# Altium footprint library QFP_Sq_100P_Side_L.PcbLib: 9 footprints
Each footprint in its own frame and in the unit in brackets; x right, y up, seen from the top. Pads: shape width x height; smd on the part's side, far side on the other; paste and mask are expansions set on the pad; w line width, h text height; cw(c..) or ccw(c..) is an arc to the next point about the centre after c.
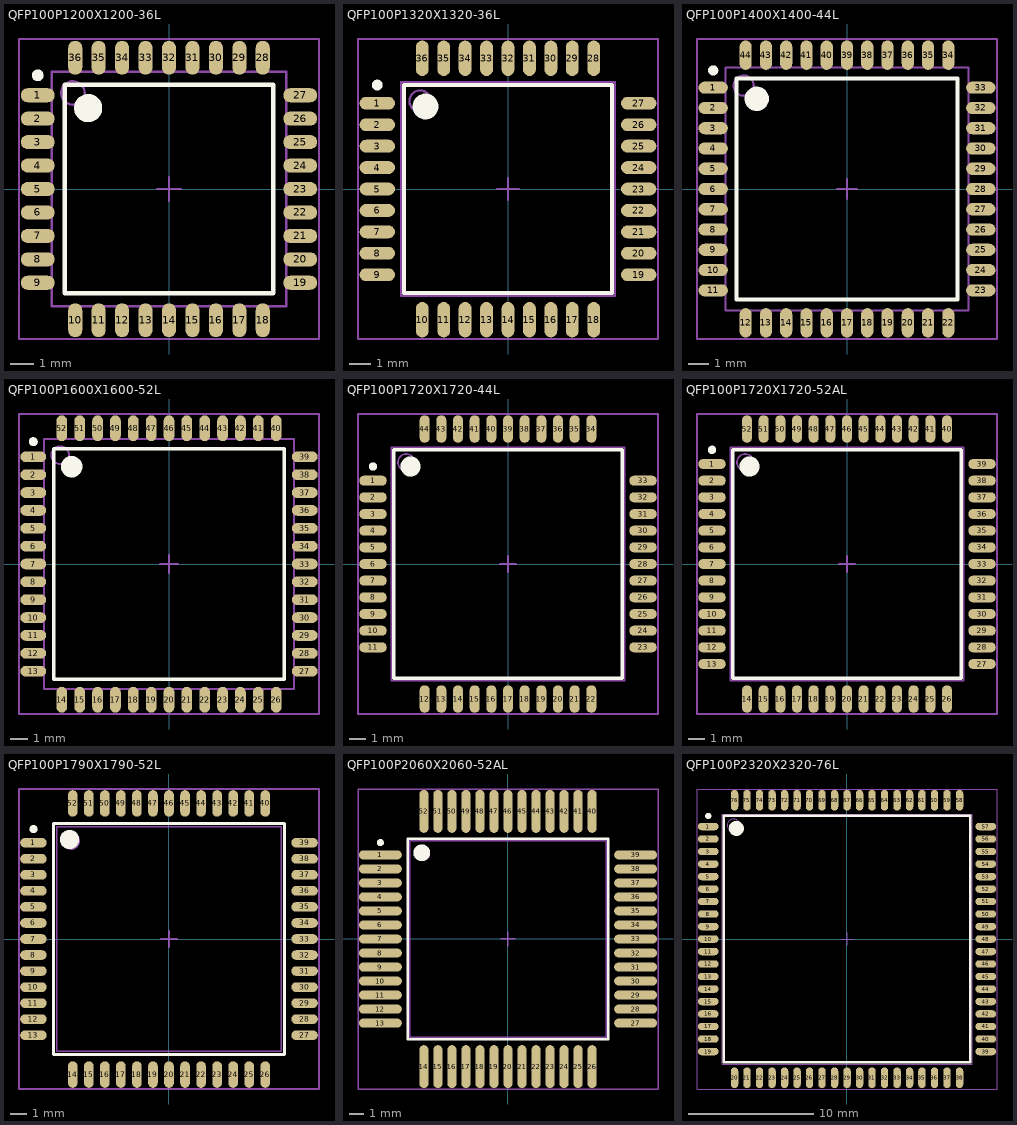
[diagram p0: the footprints below, top view; thin cyan lines are the x and y axes]

## QFP100P1200X1200-36L [mm] "QFP, 36-Leads, Body 10x10mm, Pitch 1mm, IPC High Density"
height 1.2
pads (36):
  oval 1.45x0.6 smd: 1(-5.6,4) 2(-5.6,3) 3(-5.6,2) 4(-5.6,1) 5(-5.6,0) 6(-5.6,-1) 7(-5.6,-2) 8(-5.6,-3) 9(-5.6,-4) 19(5.6,-4) 20(5.6,-3) 21(5.6,-2) 22(5.6,-1) 23(5.6,0) 24(5.6,1) 25(5.6,2) 26(5.6,3) 27(5.6,4)
  oval 0.6x1.45 smd: 10(-4,-5.6) 11(-3,-5.6) 12(-2,-5.6) 13(-1,-5.6) 14(0,-5.6) 15(1,-5.6) 16(2,-5.6) 17(3,-5.6) 18(4,-5.6) 28(4,5.6) 29(3,5.6) 30(2,5.6) 31(1,5.6) 32(0,5.6) 33(-1,5.6) 34(-2,5.6) 35(-3,5.6) 36(-4,5.6)
Top Overlay:
  circle w0.6: c-3.45,3.45 r0.3
  circle w0.25: c-5.6,4.85 r0.125
  lines w0.2: -4.45,-4.45 4.45,-4.45 4.45,4.45 -4.45,4.45 -4.45,-4.45
Mechanical 13:
  circle w0.1: c-4.1,4.1 r0.5
  lines w0.1: -5,-5 5,-5 5,5 -5,5 -5,-5
Mechanical 15:
  lines w0.1: -0.5,0 0.5,0 ; 0,-0.5 0,0.5 ; -6.4,-6.4 6.4,-6.4 6.4,6.4 -6.4,6.4 -6.4,-6.4
3D body: height 1.2, standoff 0, extent -5,-5 5,5

## QFP100P1320X1320-36L [mm] "QFP, 36-Leads, Body 10x10mm, Pitch 1mm, IPC High Density"
height 2.45
pads (36):
  oval 1.65x0.6 smd: 1(-6.1,4) 2(-6.1,3) 3(-6.1,2) 4(-6.1,1) 5(-6.1,0) 6(-6.1,-1) 7(-6.1,-2) 8(-6.1,-3) 9(-6.1,-4) 19(6.1,-4) 20(6.1,-3) 21(6.1,-2) 22(6.1,-1) 23(6.1,0) 24(6.1,1) 25(6.1,2) 26(6.1,3) 27(6.1,4)
  oval 0.6x1.65 smd: 10(-4,-6.1) 11(-3,-6.1) 12(-2,-6.1) 13(-1,-6.1) 14(0,-6.1) 15(1,-6.1) 16(2,-6.1) 17(3,-6.1) 18(4,-6.1) 28(4,6.1) 29(3,6.1) 30(2,6.1) 31(1,6.1) 32(0,6.1) 33(-1,6.1) 34(-2,6.1) 35(-3,6.1) 36(-4,6.1)
Top Overlay:
  circle w0.6: c-3.85,3.85 r0.3
  circle w0.25: c-6.1,4.85 r0.125
  lines w0.2: -4.85,-4.85 4.85,-4.85 4.85,4.85 -4.85,4.85 -4.85,-4.85
Mechanical 13:
  circle w0.1: c-4.1,4.1 r0.5
  lines w0.1: -5,-5 5,-5 5,5 -5,5 -5,-5
Mechanical 15:
  lines w0.1: -0.5,0 0.5,0 ; 0,-0.5 0,0.5 ; -7,-7 7,-7 7,7 -7,7 -7,-7
3D body: height 2.45, standoff 0, extent -5,-5 5,5

## QFP100P1400X1400-44L [mm] "QFP, 44-Leads, Body 12x12mm, Pitch 1mm, IPC High Density"
height 1.2
pads (44):
  oval 1.45x0.6 smd: 1(-6.6,5) 2(-6.6,4) 3(-6.6,3) 4(-6.6,2) 5(-6.6,1) 6(-6.6,0) 7(-6.6,-1) 8(-6.6,-2) 9(-6.6,-3) 10(-6.6,-4) 11(-6.6,-5) 23(6.6,-5) 24(6.6,-4) 25(6.6,-3) 26(6.6,-2) 27(6.6,-1) 28(6.6,0) 29(6.6,1) 30(6.6,2) 31(6.6,3) 32(6.6,4) 33(6.6,5)
  oval 0.6x1.45 smd: 12(-5,-6.6) 13(-4,-6.6) 14(-3,-6.6) 15(-2,-6.6) 16(-1,-6.6) 17(0,-6.6) 18(1,-6.6) 19(2,-6.6) 20(3,-6.6) 21(4,-6.6) 22(5,-6.6) 34(5,6.6) 35(4,6.6) 36(3,6.6) 37(2,6.6) 38(1,6.6) 39(0,6.6) 40(-1,6.6) 41(-2,6.6) 42(-3,6.6) 43(-4,6.6) 44(-5,6.6)
Top Overlay:
  circle w0.6: c-4.45,4.45 r0.3
  circle w0.25: c-6.6,5.85 r0.125
  lines w0.2: -5.45,-5.45 5.45,-5.45 5.45,5.45 -5.45,5.45 -5.45,-5.45
Mechanical 13:
  circle w0.1: c-5.1,5.1 r0.5
  lines w0.1: -6,-6 6,-6 6,6 -6,6 -6,-6
Mechanical 15:
  lines w0.1: -0.5,0 0.5,0 ; 0,-0.5 0,0.5 ; -7.4,-7.4 7.4,-7.4 7.4,7.4 -7.4,7.4 -7.4,-7.4
3D body: height 1.2, standoff 0, extent -6,-6 6,6

## QFP100P1600X1600-52L [mm] "QFP, 52-Leads, Body 14x14mm, Pitch 1mm, IPC High Density"
height 1.2
pads (52):
  oval 1.45x0.6 smd: 1(-7.6,6) 2(-7.6,5) 3(-7.6,4) 4(-7.6,3) 5(-7.6,2) 6(-7.6,1) 7(-7.6,0) 8(-7.6,-1) 9(-7.6,-2) 10(-7.6,-3) 11(-7.6,-4) 12(-7.6,-5) 13(-7.6,-6) 27(7.6,-6) 28(7.6,-5) 29(7.6,-4) 30(7.6,-3) 31(7.6,-2) 32(7.6,-1) 33(7.6,0) 34(7.6,1) 35(7.6,2) 36(7.6,3) 37(7.6,4) 38(7.6,5) 39(7.6,6)
  oval 0.6x1.45 smd: 14(-6,-7.6) 15(-5,-7.6) 16(-4,-7.6) 17(-3,-7.6) 18(-2,-7.6) 19(-1,-7.6) 20(0,-7.6) 21(1,-7.6) 22(2,-7.6) 23(3,-7.6) 24(4,-7.6) 25(5,-7.6) 26(6,-7.6) 40(6,7.6) 41(5,7.6) 42(4,7.6) 43(3,7.6) 44(2,7.6) 45(1,7.6) 46(0,7.6) 47(-1,7.6) 48(-2,7.6) 49(-3,7.6) 50(-4,7.6) 51(-5,7.6) 52(-6,7.6)
Top Overlay:
  circle w0.6: c-5.45,5.45 r0.3
  circle w0.25: c-7.6,6.85 r0.125
  lines w0.2: -6.45,-6.45 6.45,-6.45 6.45,6.45 -6.45,6.45 -6.45,-6.45
Mechanical 13:
  circle w0.1: c-6.1,6.1 r0.5
  lines w0.1: -7,-7 7,-7 7,7 -7,7 -7,-7
Mechanical 15:
  lines w0.1: -0.5,0 0.5,0 ; 0,-0.5 0,0.5 ; -8.4,-8.4 8.4,-8.4 8.4,8.4 -8.4,8.4 -8.4,-8.4
3D body: height 1.2, standoff 0, extent -7,-7 7,7

## QFP100P1720X1720-44L [mm] "44-Pin Quad Flat Pack 1 mm Pitch"
height 3.4
pads (44):
  oval 1.65x0.6 smd: 1(-8.1,5) 2(-8.1,4) 3(-8.1,3) 4(-8.1,2) 5(-8.1,1) 6(-8.1,0) 7(-8.1,-1) 8(-8.1,-2) 9(-8.1,-3) 10(-8.1,-4) 11(-8.1,-5) 23(8.1,-5) 24(8.1,-4) 25(8.1,-3) 26(8.1,-2) 27(8.1,-1) 28(8.1,0) 29(8.1,1) 30(8.1,2) 31(8.1,3) 32(8.1,4) 33(8.1,5)
  oval 0.6x1.65 smd: 12(-5,-8.1) 13(-4,-8.1) 14(-3,-8.1) 15(-2,-8.1) 16(-1,-8.1) 17(0,-8.1) 18(1,-8.1) 19(2,-8.1) 20(3,-8.1) 21(4,-8.1) 22(5,-8.1) 34(5,8.1) 35(4,8.1) 36(3,8.1) 37(2,8.1) 38(1,8.1) 39(0,8.1) 40(-1,8.1) 41(-2,8.1) 42(-3,8.1) 43(-4,8.1) 44(-5,8.1)
Top Overlay:
  circle w0.6: c-5.85,5.85 r0.3
  circle w0.25: c-8.1,5.85 r0.125
  lines w0.2: -6.85,-6.85 6.85,-6.85 6.85,6.85 -6.85,6.85 -6.85,-6.85
Mechanical 13:
  circle w0.1: c-6.1,6.1 r0.5
  lines w0.1: -7,-7 7,-7 7,7 -7,7 -7,-7
Mechanical 15:
  lines w0.1: -0.5,0 0.5,0 ; 0,-0.5 0,0.5 ; -9,-9 9,-9 9,9 -9,9 -9,-9
3D body: height 3.4, standoff 0, extent -7,-7 7,7

## QFP100P1720X1720-52AL [mm] "QFP, 52-Leads, Body 14x14mm, Pitch 1mm, IPC High Density"
height 3
pads (52):
  oval 1.65x0.6 smd: 1(-8.1,6) 2(-8.1,5) 3(-8.1,4) 4(-8.1,3) 5(-8.1,2) 6(-8.1,1) 7(-8.1,0) 8(-8.1,-1) 9(-8.1,-2) 10(-8.1,-3) 11(-8.1,-4) 12(-8.1,-5) 13(-8.1,-6) 27(8.1,-6) 28(8.1,-5) 29(8.1,-4) 30(8.1,-3) 31(8.1,-2) 32(8.1,-1) 33(8.1,0) 34(8.1,1) 35(8.1,2) 36(8.1,3) 37(8.1,4) 38(8.1,5) 39(8.1,6)
  oval 0.6x1.65 smd: 14(-6,-8.1) 15(-5,-8.1) 16(-4,-8.1) 17(-3,-8.1) 18(-2,-8.1) 19(-1,-8.1) 20(0,-8.1) 21(1,-8.1) 22(2,-8.1) 23(3,-8.1) 24(4,-8.1) 25(5,-8.1) 26(6,-8.1) 40(6,8.1) 41(5,8.1) 42(4,8.1) 43(3,8.1) 44(2,8.1) 45(1,8.1) 46(0,8.1) 47(-1,8.1) 48(-2,8.1) 49(-3,8.1) 50(-4,8.1) 51(-5,8.1) 52(-6,8.1)
Top Overlay:
  circle w0.6: c-5.85,5.85 r0.3
  circle w0.25: c-8.1,6.85 r0.125
  lines w0.2: -6.85,-6.85 6.85,-6.85 6.85,6.85 -6.85,6.85 -6.85,-6.85
Mechanical 13:
  circle w0.1: c-6.1,6.1 r0.5
  lines w0.1: -7,-7 7,-7 7,7 -7,7 -7,-7
Mechanical 15:
  lines w0.1: -0.5,0 0.5,0 ; 0,-0.5 0,0.5 ; -9,-9 9,-9 9,9 -9,9 -9,-9
3D body: height 3, standoff 0, extent -7,-7 7,7

## QFP100P1790X1790-52L [mm] "QFP, 52-Leads, Body 14x14mm, Pitch 1mm, IPC High Density"
height 2.45
pads (52):
  oval 1.65x0.6 smd: 1(-8.45,6) 2(-8.45,5) 3(-8.45,4) 4(-8.45,3) 5(-8.45,2) 6(-8.45,1) 7(-8.45,0) 8(-8.45,-1) 9(-8.45,-2) 10(-8.45,-3) 11(-8.45,-4) 12(-8.45,-5) 13(-8.45,-6) 27(8.45,-6) 28(8.45,-5) 29(8.45,-4) 30(8.45,-3) 31(8.45,-2) 32(8.45,-1) 33(8.45,0) 34(8.45,1) 35(8.45,2) 36(8.45,3) 37(8.45,4) 38(8.45,5) 39(8.45,6)
  oval 0.6x1.65 smd: 14(-6,-8.45) 15(-5,-8.45) 16(-4,-8.45) 17(-3,-8.45) 18(-2,-8.45) 19(-1,-8.45) 20(0,-8.45) 21(1,-8.45) 22(2,-8.45) 23(3,-8.45) 24(4,-8.45) 25(5,-8.45) 26(6,-8.45) 40(6,8.45) 41(5,8.45) 42(4,8.45) 43(3,8.45) 44(2,8.45) 45(1,8.45) 46(0,8.45) 47(-1,8.45) 48(-2,8.45) 49(-3,8.45) 50(-4,8.45) 51(-5,8.45) 52(-6,8.45)
Top Overlay:
  circle w0.6: c-6.2,6.2 r0.3
  circle w0.25: c-8.45,6.85 r0.125
  lines w0.2: -7.2,-7.2 7.2,-7.2 7.2,7.2 -7.2,7.2 -7.2,-7.2
Mechanical 13:
  circle w0.1: c-6.1,6.1 r0.5
  lines w0.1: -7,-7 7,-7 7,7 -7,7 -7,-7
Mechanical 15:
  lines w0.1: -0.5,0 0.5,0 ; 0,-0.5 0,0.5 ; -9.35,-9.35 9.35,-9.35 9.35,9.35 -9.35,9.35 -9.35,-9.35
3D body: height 2.45, standoff 0, extent -7,-7 7,7

## QFP100P2060X2060-52AL [mm] "QFP, 52-Leads, Body 14x14mm, Pitch 1mm, IPC High Density"
height 2.8
pads (52):
  oval 3.05x0.65 smd: 1(-9.1,6) 2(-9.1,5) 3(-9.1,4) 4(-9.1,3) 5(-9.1,2) 6(-9.1,1) 7(-9.1,0) 8(-9.1,-1) 9(-9.1,-2) 10(-9.1,-3) 11(-9.1,-4) 12(-9.1,-5) 13(-9.1,-6) 27(9.1,-6) 28(9.1,-5) 29(9.1,-4) 30(9.1,-3) 31(9.1,-2) 32(9.1,-1) 33(9.1,0) 34(9.1,1) 35(9.1,2) 36(9.1,3) 37(9.1,4) 38(9.1,5) 39(9.1,6)
  oval 0.65x3.05 smd: 14(-6,-9.1) 15(-5,-9.1) 16(-4,-9.1) 17(-3,-9.1) 18(-2,-9.1) 19(-1,-9.1) 20(0,-9.1) 21(1,-9.1) 22(2,-9.1) 23(3,-9.1) 24(4,-9.1) 25(5,-9.1) 26(6,-9.1) 40(6,9.1) 41(5,9.1) 42(4,9.1) 43(3,9.1) 44(2,9.1) 45(1,9.1) 46(0,9.1) 47(-1,9.1) 48(-2,9.1) 49(-3,9.1) 50(-4,9.1) 51(-5,9.1) 52(-6,9.1)
Top Overlay:
  circle w0.25: c-9.1,6.875 r0.125
  circle w0.6: c-6.15,6.15 r0.3
  lines w0.2: -7.15,-7.15 -7.15,7.15 7.15,7.15 7.15,-7.15 -7.15,-7.15
Mechanical 13:
  circle w0.1: c-6.1,6.1 r0.5
  lines w0.1: -7,-7 -7,7 7,7 7,-7 -7,-7
Mechanical 15:
  lines w0.1: -0.5,0 0.5,0 ; 0,-0.5 0,0.5 ; -10.7,-10.7 -10.7,10.7 10.7,10.7 10.7,-10.7 -10.7,-10.7
3D body: height 2.8, standoff 0, extent -7,-7 7,7

## QFP100P2320X2320-76L [mm] "QFP, 76-Leads, Body 20x20mm, Pitch 1mm, IPC High Density"
height 3.4
pads (76):
  oval 1.65x0.6 smd: 1(-11.1,9) 2(-11.1,8) 3(-11.1,7) 4(-11.1,6) 5(-11.1,5) 6(-11.1,4) 7(-11.1,3) 8(-11.1,2) 9(-11.1,1) 10(-11.1,0) 11(-11.1,-1) 12(-11.1,-2) 13(-11.1,-3) 14(-11.1,-4) 15(-11.1,-5) 16(-11.1,-6) 17(-11.1,-7) 18(-11.1,-8) 19(-11.1,-9) 39(11.1,-9) 40(11.1,-8) 41(11.1,-7) 42(11.1,-6) 43(11.1,-5) 44(11.1,-4) 45(11.1,-3) 46(11.1,-2) 47(11.1,-1) 48(11.1,0) 49(11.1,1) 50(11.1,2) 51(11.1,3) 52(11.1,4) 53(11.1,5) 54(11.1,6) 55(11.1,7) 56(11.1,8) 57(11.1,9)
  oval 0.6x1.65 smd: 20(-9,-11.1) 21(-8,-11.1) 22(-7,-11.1) 23(-6,-11.1) 24(-5,-11.1) 25(-4,-11.1) 26(-3,-11.1) 27(-2,-11.1) 28(-1,-11.1) 29(0,-11.1) 30(1,-11.1) 31(2,-11.1) 32(3,-11.1) 33(4,-11.1) 34(5,-11.1) 35(6,-11.1) 36(7,-11.1) 37(8,-11.1) 38(9,-11.1) 58(9,11.1) 59(8,11.1) 60(7,11.1) 61(6,11.1) 62(5,11.1) 63(4,11.1) 64(3,11.1) 65(2,11.1) 66(1,11.1) 67(0,11.1) 68(-1,11.1) 69(-2,11.1) 70(-3,11.1) 71(-4,11.1) 72(-5,11.1) 73(-6,11.1) 74(-7,11.1) 75(-8,11.1) 76(-9,11.1)
Top Overlay:
  circle w0.6: c-8.85,8.85 r0.3
  circle w0.25: c-11.1,9.85 r0.125
  lines w0.2: -9.85,-9.85 9.85,-9.85 9.85,9.85 -9.85,9.85 -9.85,-9.85
Mechanical 13:
  circle w0.1: c-9.1,9.1 r0.5
  lines w0.1: -10,-10 10,-10 10,10 -10,10 -10,-10
Mechanical 15:
  lines w0.1: -0.5,0 0.5,0 ; 0,-0.5 0,0.5 ; -12,-12 12,-12 12,12 -12,12 -12,-12
3D body: height 3.4, standoff 0, extent -10,-10 10,10